# Altium integrated library ON.IntLib: 11 symbols
Pins are listed as number, name and electrical type; pins without a type are passive.

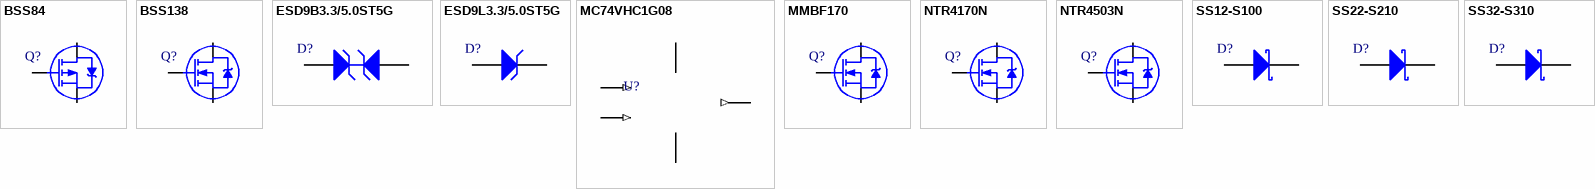
[diagram p0: symbols BSS84 to SS32-S310]

## BSS84
designator Q?
P-Channel Enhancement Mode Field-Effect Transistor; VDSS: -50V; VGS: –1.7V; ID: −0.13A; RDS: 1.2Ω @ -0.1A,-5V
footprint SOT-23/TO-236_318-08
pins: 1 G, 2 D, 3 S

## BSS138
designator Q?
N-Channel Logic Level Enhancement Mode Field Effect Transistor; VDSS: 50V; VGS: 1.3V; ID: 0.22A; RDS: 0.7Ω @ 0.2A,10V
footprint SOT-23/TO-236_318-08
pins: 1 G, 2 D, 3 S

## ESD9B3.3/5.0ST5G
designator D?
ESD Protection Diode; VRWM: 3.3V-5V; VBR: 5V-5.8V; IR: 100nA; ESD: ±18kV; CJ: 15pF
footprint SOD-923_514AB
pins: 1, 2

## ESD9L3.3/5.0ST5G
designator D?
ESD Protection Diode, Ultra-Low Capacitance; VRWM: 3.3V-5V; VBR: 4.8V-5.4V; IR: 1uA; ESD: ±10kV; CJ: 0.5pF
footprint SOD-923_514AB
pins: 1, 2

## MC74VHC1G08
designator U?
Single 2-Input AND Gate; SupplyVoltageMax: 5.5V; SupplyVoltageMin: 2V
footprint SC-88A
pins: 1 B (in), 2 A (in), 3 GND, 4 Y (out), 5 VCC (power)

## MMBF170
designator Q?
N-Channel Enhancement Mode Field Effect Transistor; VDSS: 60V; VGS: 2.1V; ID: 0.5A; RDS: 1.2Ω @ 0.2A,10V
footprint SOT-23/TO-236_318-08
pins: 1 G, 2 D, 3 S

## NTR4170N
designator Q?
MOSFET – Power, Single, N-Channel, SOT-23; VDSS: 30V; VGS: 1V; ID: 2.4A; RDS: 0.045Ω @ 3.2A,10V
footprint SOT-23/TO-236_318-08
pins: 1 G, 2 D, 3 S

## NTR4503N
designator Q?
MOSFET – Power, Single, N-Channel, SOT-23; VDSS: 30V; VGS: 1.75V; ID: 2A; RDS: 0.085Ω @ 2.5A,10V
footprint SOT-23/TO-236_318-08
pins: 1 G, 2 D, 3 S

## SS12-S100
designator D?
Schottky Rectifier; VRRM: 20V-100V; IO: 1A; VF: 500mV-850mV; IR: 0.2mA-10mA
footprint SMA/DO-214AC_403AE
pins: 1, 2

## SS22-S210
designator D?
Schottky Rectifier; VRRM: 20V-100V; IO: 2A; VF: 500mV-850mV; IR: 0.4mA-10mA
footprint SMB/DO-214AA_403AF
pins: 1, 2

## SS32-S310
designator D?
Schottky Rectifier; VRRM: 20V-100V; IO: 3A; VF: 500mV-850mV; IR: 0.5mA-20mA
footprint SMC/DO-214AB_403AG
pins: 1, 2